# Altium footprint library PcbLib1.PcbLib: 1 footprints
Each footprint in its own frame and in the unit in brackets; x right, y up, seen from the top. Pads: shape width x height; smd on the part's side, far side on the other; paste and mask are expansions set on the pad; w line width, h text height; cw(c..) or ccw(c..) is an arc to the next point about the centre after c.
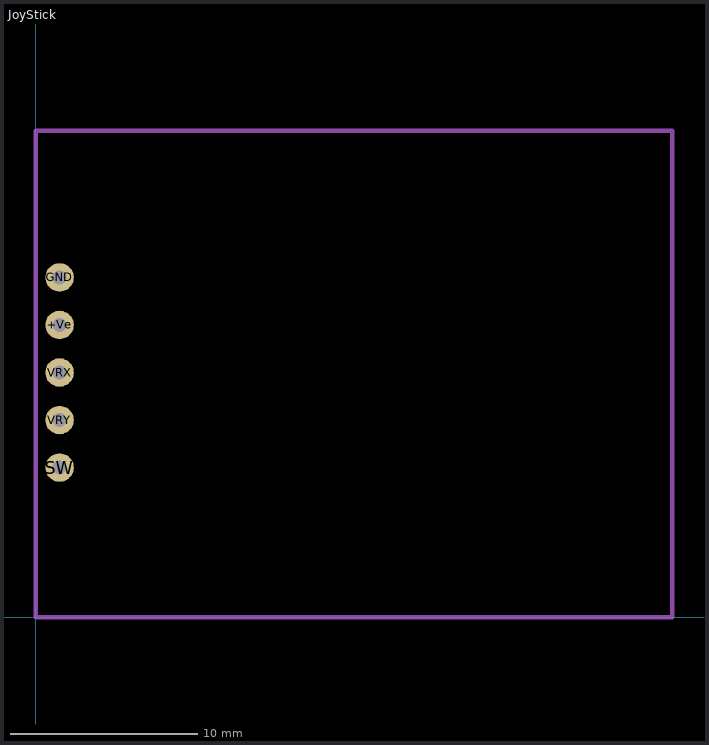
[diagram p0: the footprint, top view; thin cyan lines are the x and y axes]

## JoyStick [mil]
pads (5):
  round 60 hole 30: +Ve(50,614.96) GND(50,714.96) SW(50,314.96) VRX(50,514.96) VRY(50,414.96)
Mechanical 1:
  lines w10: 0,0 1338.58,0 1338.58,1023.62 0,1023.62 0,0
3D body "KY-023_assy.stp": height 1169.29, standoff -78.74, extent -109.21,-34.25 1440,1054.25